# EAGLE library part SX1262 (library RadioShield)
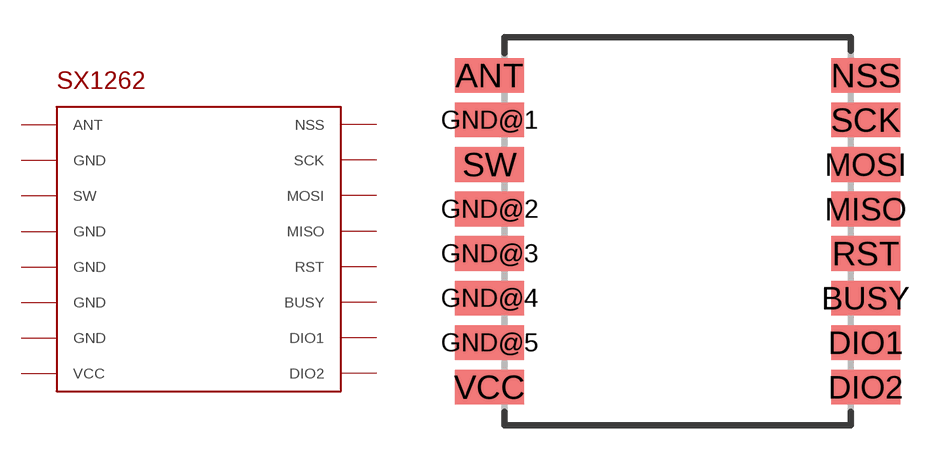
[diagram p11: symbol with the pads of SX1262; footprint SX1262]

Designator prefix -

## SX1262  [SX1262]
ANT  ANT
BUSY  BUSY
DIO1  DIO1
DIO2  DIO2
GND@1  GND
GND@2  GND
GND@3  GND
GND@4  GND
GND@5  GND
MISO  MISO
MOSI  MOSI
NSS  NSS
RST  RST
SCK  SCK
SW  SW
VCC  VCC

## Footprint SX1262 (pad centres in mm)
smd 2.8 x 1.4: ANT -7.6,6.3; BUSY 7.6,-2.7; DIO1 7.6,-4.5; DIO2 7.6,-6.3; GND@1 -7.6,4.5; GND@2 -7.6,0.9; GND@3 -7.6,-0.9; GND@4 -7.6,-2.7; GND@5 -7.6,-4.5; MISO 7.6,0.9; MOSI 7.6,2.7; NSS 7.6,6.3; RST 7.6,-0.9; SCK 7.6,4.5; SW -7.6,2.7; VCC -7.6,-6.3